# EAGLE library part NXP-NTB0102 (library EagleLibrary)
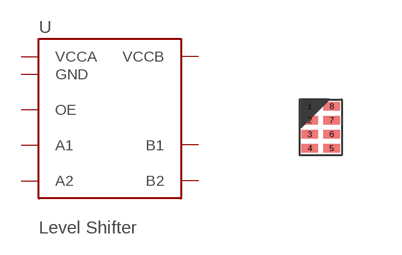
[diagram p37: symbol with the pads of NXP-NTB0102GF; footprint NXP-NTB0102GF]

Designator prefix U

## NXP-NTB0102 (MFG: NXP; PN: NTB0102GF)  [NXP-NTB0102GF]
1  B2
2  GND
3  VCCA
4  A2
5  A1
6  OE
7  VCCB
8  B1

## Footprint NXP-NTB0102GF (pad centres in mm)
DFN4, 1.00 X 1.35 X 0.50 mm body DFN4 package with body size 1.00 X 1.35 X 0.50 mm
smd 0.413 x 0.22: 1 -0.275,0.525; 2 -0.275,0.175; 3 -0.275,-0.175; 4 -0.275,-0.525; 5 0.275,-0.525; 6 0.275,-0.175; 7 0.275,0.175; 8 0.275,0.525